# Altium schematic symbol library ParCar.SchLib: 4 symbols
Pins are listed as number, name and electrical type; pins without a type are passive.

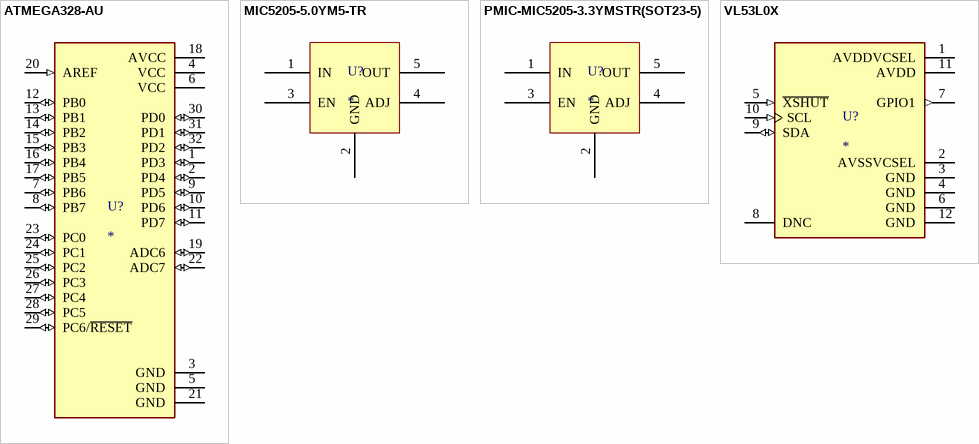
[diagram p0: symbols ATMEGA328-AU to VL53L0X]

## ATMEGA328-AU
designator U?
AVR AVRÂ® ATmega Microcontroller IC 8-Bit 20MHz 32KB (16K x 16) FLASH 32-TQFP (7x7)
footprint ATMEGA328-AU
pins: 1 PD3 (io), 2 PD4 (io), 3 GND (power), 4 VCC (power), 5 GND (power), 6 VCC (power), 7 PB6 (io), 8 PB7 (io), 9 PD5 (io), 10 PD6 (io), 11 PD7 (io), 12 PB0 (io), 13 PB1 (io), 14 PB2 (io), 15 PB3 (io), 16 PB4 (io), 17 PB5 (io), 18 AVCC (power), 19 ADC6 (io), 20 AREF (in), 21 GND (power), 22 ADC7 (io), 23 PC0 (io), 24 PC1 (io), 25 PC2 (io), 26 PC3 (io), 27 PC4 (io), 28 PC5 (io), 29 PC6/~{RESET} (io), 30 PD0 (io), 31 PD1 (io), 32 PD2 (io)

## MIC5205-5.0YM5-TR
designator U?
Linear Voltage Regulator IC Positive Fixed 1 Output 150mA SOT-23-5
footprint PMIC-MIC5205-3.3YMSTR(SOT23-5)
pins: 1 IN, 2 GND, 3 EN, 4 ADJ, 5 OUT

## PMIC-MIC5205-3.3YMSTR(SOT23-5)
designator U?
Linear Voltage Regulator IC 1 Output 150mA SOT-23-5
footprint PMIC-MIC5205-3.3YMSTR(SOT23-5)
pins: 1 IN, 2 GND, 3 EN, 4 ADJ, 5 OUT

## VL53L0X
designator U?
VL53L0X - Light, 3D Time-of-Flight _ToF_
footprint VL53L0X
pins: 1 AVDDVCSEL (power), 2 AVSSVCSEL (power), 3 GND (power), 4 GND (power), 5 ~{XSHUT} (in), 6 GND (power), 7 GPIO1 (out), 8 DNC (power), 9 SDA (io), 10 SCL (in), 11 AVDD (power), 12 GND (power)